# Altium footprint library WCAP-ATLL.PcbLib: 21 footprints (part 1 of 2)
Each footprint in its own frame and in the unit in brackets; x right, y up, seen from the top. Pads: shape width x height; smd on the part's side, far side on the other; paste and mask are expansions set on the pad; w line width, h text height; cw(c..) or ccw(c..) is an arc to the next point about the centre after c.
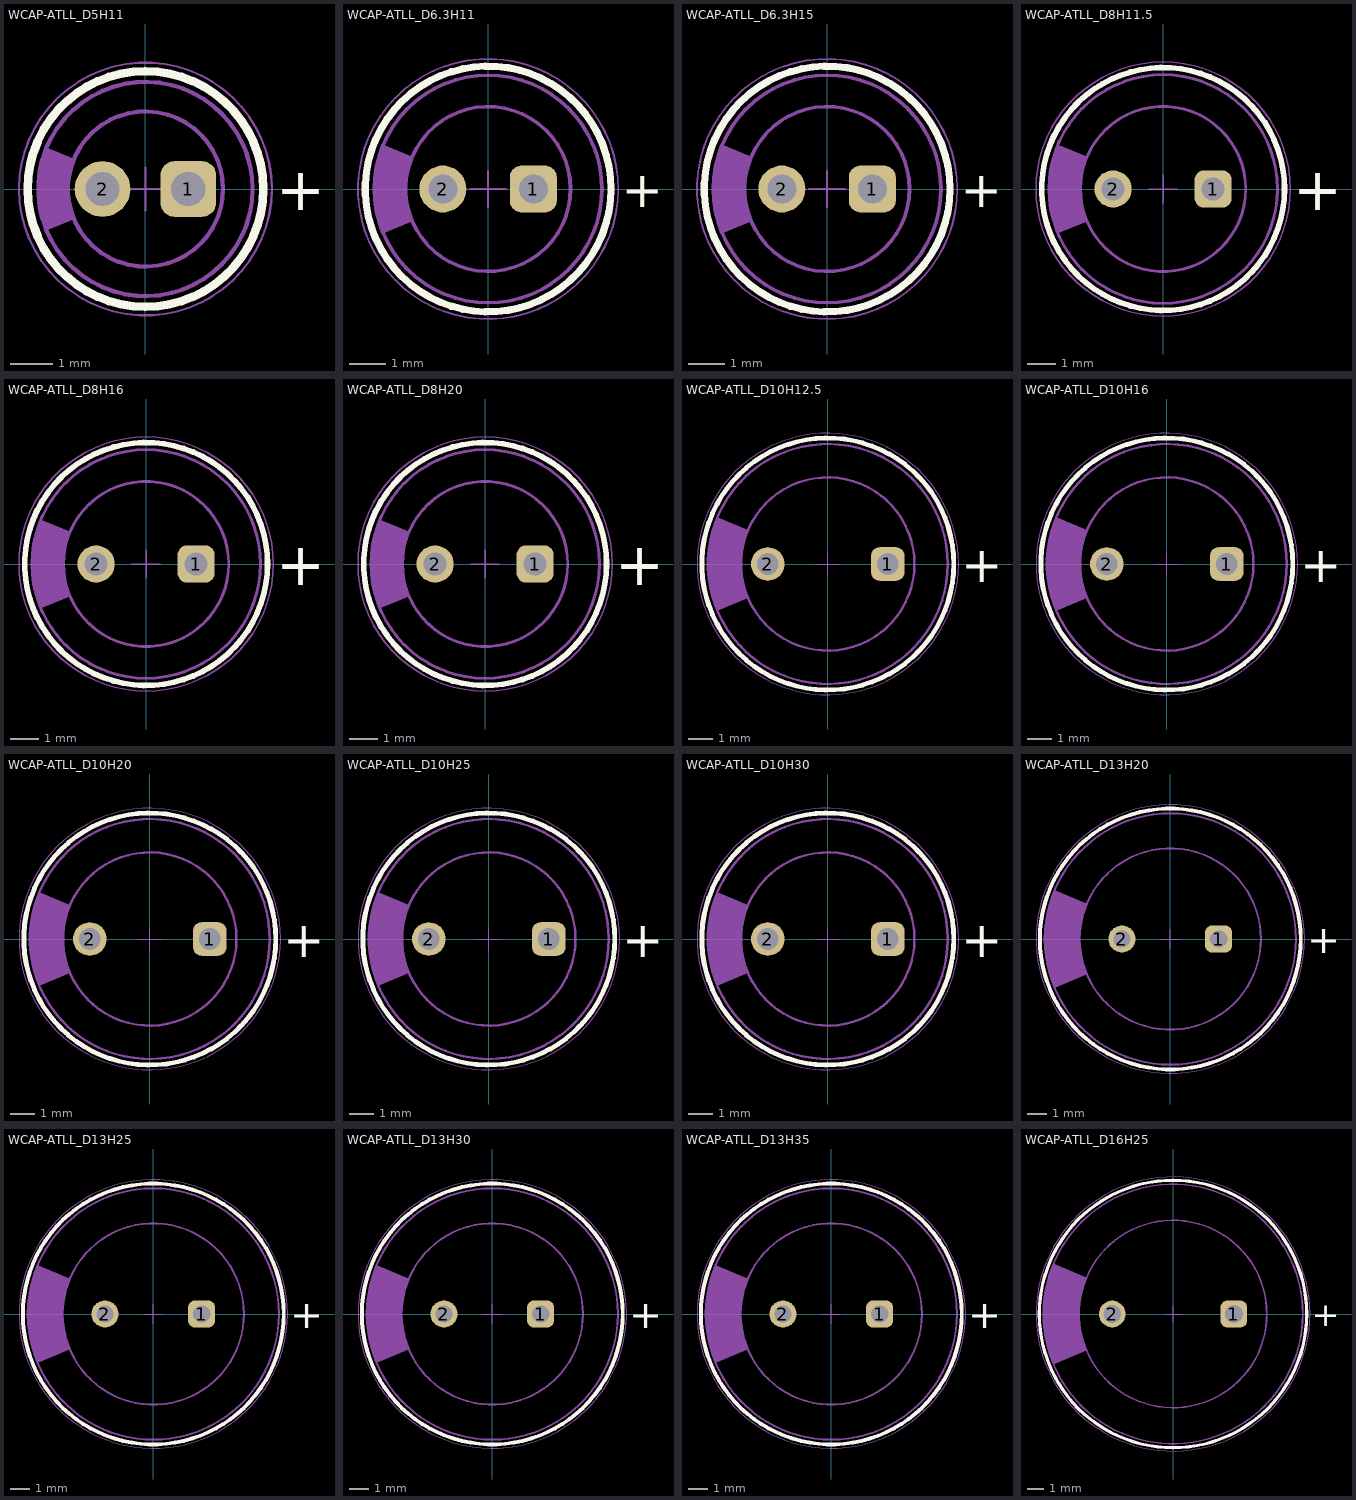
[diagram p0: the footprints below, top view; thin cyan lines are the x and y axes]

## WCAP-ATLL_D5H11 [mm] "Aluminum Electrolytic Capacitors, 5x11mm"
height 11
pads (2):
  rrect50% 1.3x1.3 hole 0.8: 1(1,0)
  round 1.3 hole 0.8: 2(-1,0)
Top Overlay:
  circle w0.2: c0,0 r2.75
  text "+" at 3.05,-0.5 h1
Top Designator:
  text ".Designator" at -4.998,-0.333 h1
Top Component Outline:
  circle w0.1: c0,0 r2.5
  circle w0.1: c0,0 r1.81
  region: -2.305,-0.968 -1.668,-0.702 -1.669,-0.701 -1.73,-0.532 -1.801,-0.18 -1.801,0.18 -1.73,0.532 -1.669,0.701 -1.668,0.702 -2.305,0.968 -2.402,0.738 -2.5,0.249 -2.5,-0.249 -2.402,-0.738
Top 3D Body:
  circle w0.1: c0,0 r2.5
  circle w0.1: c0,0 r1.81
  region: -2.305,-0.968 -1.668,-0.702 -1.669,-0.701 -1.73,-0.532 -1.801,-0.18 -1.801,0.18 -1.73,0.532 -1.669,0.701 -1.668,0.702 -2.305,0.968 -2.402,0.738 -2.5,0.249 -2.5,-0.249 -2.402,-0.738
Top Courtyard:
  circle w0.05: c0,0 r2.95
  lines w0.05: -0.5,0 0.5,0 ; 0,-0.5 0,0.5
3D body "5x11x2x0.5.stp": height 11.31, standoff -19.91, extent -2.49,-2.5 2.5,2.5

## WCAP-ATLL_D6.3H11 [mm] "Aluminum Electrolytic Capacitors, 6.3x11mm"
height 11
pads (2):
  rrect50% 1.3x1.3 hole 0.8: 1(1.25,0)
  round 1.3 hole 0.8: 2(-1.25,0)
Top Overlay:
  circle w0.2: c0,0 r3.4
  text "+" at 3.7,-0.5 h1
Top Designator:
  text ".Designator" at -5.998,-0.4 h1.2
Top Component Outline:
  circle w0.1: c0,0 r2.28
  circle w0.1: c0,0 r3.15
  region: -2.902,-1.225 -2.963,-1.08 -3.056,-0.779 -3.119,-0.471 -3.15,-0.157 -3.15,0.157 -3.119,0.471 -3.056,0.779 -2.963,1.08 -2.902,1.225 -2.1,0.887 -2.101,0.885 -2.179,0.671 -2.269,0.227 -2.269,-0.227 -2.179,-0.671 -2.101,-0.885 -2.1,-0.887
Top 3D Body:
  circle w0.1: c0,0 r2.28
  circle w0.1: c0,0 r3.15
  region: -2.902,-1.225 -2.963,-1.08 -3.056,-0.779 -3.119,-0.471 -3.15,-0.157 -3.15,0.157 -3.119,0.471 -3.056,0.779 -2.963,1.08 -2.902,1.225 -2.1,0.887 -2.101,0.885 -2.179,0.671 -2.269,0.227 -2.269,-0.227 -2.179,-0.671 -2.101,-0.885 -2.1,-0.887
Top Courtyard:
  circle w0.05: c0,0 r3.6
  lines w0.05: -0.5,0 0.5,0 ; 0,-0.5 0,0.5
3D body "6.3x11x2.5x0.5.stp": height 11.31, standoff -19.91, extent -3.14,-3.15 3.15,3.15

## WCAP-ATLL_D6.3H15 [mm] "Aluminum Electrolytic Capacitors, 6.3x15mm"
height 15
pads (2):
  rrect50% 1.3x1.3 hole 0.8: 1(1.25,0)
  round 1.3 hole 0.8: 2(-1.25,0)
Top Overlay:
  circle w0.2: c0,0 r3.4
  text "+" at 3.7,-0.5 h1
Top Designator:
  text ".Designator" at -5.998,-0.4 h1.2
Top Component Outline:
  circle w0.1: c0,0 r2.28
  circle w0.1: c0,0 r3.15
  region: -2.902,-1.225 -2.963,-1.08 -3.056,-0.779 -3.119,-0.471 -3.15,-0.157 -3.15,0.157 -3.119,0.471 -3.056,0.779 -2.963,1.08 -2.902,1.225 -2.1,0.887 -2.101,0.885 -2.179,0.671 -2.269,0.227 -2.269,-0.227 -2.179,-0.671 -2.101,-0.885 -2.1,-0.887
Top 3D Body:
  circle w0.1: c0,0 r2.28
  circle w0.1: c0,0 r3.15
  region: -2.902,-1.225 -2.963,-1.08 -3.056,-0.779 -3.119,-0.471 -3.15,-0.157 -3.15,0.157 -3.119,0.471 -3.056,0.779 -2.963,1.08 -2.902,1.225 -2.1,0.887 -2.101,0.885 -2.179,0.671 -2.269,0.227 -2.269,-0.227 -2.179,-0.671 -2.101,-0.885 -2.1,-0.887
Top Courtyard:
  circle w0.05: c0,0 r3.6
  lines w0.05: -0.5,0 0.5,0 ; 0,-0.5 0,0.5
3D body "6.3x15x2.5x0.5.stp": height 15.31, standoff -19.91, extent -3.14,-3.15 3.15,3.15

## WCAP-ATLL_D8H11.5 [mm] "Aluminum Electrolytic Capacitors, 8x11.5mm"
height 11.5
pads (2):
  rrect50% 1.3x1.3 hole 0.8: 1(1.75,0)
  round 1.3 hole 0.8: 2(-1.75,0)
Top Overlay:
  circle w0.2: c0,0 r4.25
  text "+" at 4.55,-0.75 h1.5
Top Designator:
  text ".Designator" at -7.498,-0.5 h1.5
Top Component Outline:
  circle w0.1: c0,0 r4
  circle w0.1: c0,0 r2.89
  region: -3.685,-1.557 -3.762,-1.372 -3.881,-0.99 -3.96,-0.598 -4,-0.2 -4,0.2 -3.96,0.598 -3.881,0.99 -3.762,1.372 -3.685,1.557 -2.662,1.125 -2.662,1.124 -2.715,0.99 -2.8,0.714 -2.858,0.431 -2.886,0.144 -2.886,-0.144 -2.858,-0.431 -2.8,-0.714 -2.715,-0.99 -2.662,-1.124 -2.662,-1.125
Top 3D Body:
  circle w0.1: c0,0 r4
  circle w0.1: c0,0 r2.89
  region: -3.685,-1.557 -3.762,-1.372 -3.881,-0.99 -3.96,-0.598 -4,-0.2 -4,0.2 -3.96,0.598 -3.881,0.99 -3.762,1.372 -3.685,1.557 -2.662,1.125 -2.662,1.124 -2.715,0.99 -2.8,0.714 -2.858,0.431 -2.886,0.144 -2.886,-0.144 -2.858,-0.431 -2.8,-0.714 -2.715,-0.99 -2.662,-1.124 -2.662,-1.125
Top Courtyard:
  circle w0.05: c0,0 r4.45
  lines w0.05: -0.5,0 0.5,0 ; 0,-0.5 0,0.5
3D body "8x11.5x3.5x0.5.stp": height 11.81, standoff -19.91, extent -3.99,-4 4,3.999

## WCAP-ATLL_D8H16 [mm] "Aluminum Electrolytic Capacitors, 8x16mm"
height 16
pads (2):
  rrect50% 1.3x1.3 hole 0.8: 1(1.75,0)
  round 1.3 hole 0.8: 2(-1.75,0)
Top Overlay:
  circle w0.2: c0,0 r4.25
  text "+" at 4.55,-0.75 h1.5
Top Designator:
  text ".Designator" at -7.498,-0.5 h1.5
Top Component Outline:
  circle w0.1: c0,0 r4
  circle w0.1: c0,0 r2.89
  region: -3.685,-1.557 -3.762,-1.372 -3.881,-0.99 -3.96,-0.598 -4,-0.2 -4,0.2 -3.96,0.598 -3.881,0.99 -3.762,1.372 -3.685,1.557 -2.662,1.125 -2.662,1.124 -2.715,0.99 -2.8,0.714 -2.858,0.431 -2.886,0.144 -2.886,-0.144 -2.858,-0.431 -2.8,-0.714 -2.715,-0.99 -2.662,-1.124 -2.662,-1.125
Top 3D Body:
  circle w0.1: c0,0 r4
  circle w0.1: c0,0 r2.89
  region: -3.685,-1.557 -3.762,-1.372 -3.881,-0.99 -3.96,-0.598 -4,-0.2 -4,0.2 -3.96,0.598 -3.881,0.99 -3.762,1.372 -3.685,1.557 -2.662,1.125 -2.662,1.124 -2.715,0.99 -2.8,0.714 -2.858,0.431 -2.886,0.144 -2.886,-0.144 -2.858,-0.431 -2.8,-0.714 -2.715,-0.99 -2.662,-1.124 -2.662,-1.125
Top Courtyard:
  circle w0.05: c0,0 r4.45
  lines w0.05: -0.5,0 0.5,0 ; 0,-0.5 0,0.5
3D body "8x16x3.5x0.5.stp": height 16.31, standoff -19.91, extent -3.99,-4 4,3.999

## WCAP-ATLL_D8H20 [mm] "Aluminum Electrolytic Capacitors, 8x20mm"
height 20
pads (2):
  rrect50% 1.3x1.3 hole 0.8: 1(1.75,0)
  round 1.3 hole 0.8: 2(-1.75,0)
Top Overlay:
  circle w0.2: c0,0 r4.25
  text "+" at 4.55,-0.75 h1.5
Top Designator:
  text ".Designator" at -7.498,-0.5 h1.5
Top Component Outline:
  circle w0.1: c0,0 r4
  circle w0.1: c0,0 r2.89
  region: -3.685,-1.557 -3.762,-1.372 -3.881,-0.99 -3.96,-0.598 -4,-0.2 -4,0.2 -3.96,0.598 -3.881,0.99 -3.762,1.372 -3.685,1.557 -2.662,1.125 -2.662,1.124 -2.715,0.99 -2.8,0.714 -2.858,0.431 -2.886,0.144 -2.886,-0.144 -2.858,-0.431 -2.8,-0.714 -2.715,-0.99 -2.662,-1.124 -2.662,-1.125
Top 3D Body:
  circle w0.1: c0,0 r4
  circle w0.1: c0,0 r2.89
  region: -3.685,-1.557 -3.762,-1.372 -3.881,-0.99 -3.96,-0.598 -4,-0.2 -4,0.2 -3.96,0.598 -3.881,0.99 -3.762,1.372 -3.685,1.557 -2.662,1.125 -2.662,1.124 -2.715,0.99 -2.8,0.714 -2.858,0.431 -2.886,0.144 -2.886,-0.144 -2.858,-0.431 -2.8,-0.714 -2.715,-0.99 -2.662,-1.124 -2.662,-1.125
Top Courtyard:
  circle w0.05: c0,0 r4.45
  lines w0.05: -0.5,0 0.5,0 ; 0,-0.5 0,0.5
3D body "8x20x3.5x0.6.stp": height 20.31, standoff -19.91, extent -3.99,-4 4,3.998

## WCAP-ATLL_D10H12.5 [mm] "Aluminum Electrolytic Capacitors, 10x12.5mm"
height 12.5
pads (2):
  rrect50% 1.4x1.4 hole 0.9: 1(2.5,0)
  round 1.4 hole 0.9: 2(-2.5,0)
Top Overlay:
  circle w0.2: c0,0 r5.25
  text "+" at 5.55,-0.75 h1.5
Top Designator:
  text ".Designator" at -7.498,-0.5 h1.5
Top Component Outline:
  circle w0.1: c0,0 r5
  circle w0.1: c0,0 r3.61
  region: -4.607,-1.944 -3.323,-1.41 -3.324,-1.409 -3.39,-1.24 -3.497,-0.895 -3.569,-0.541 -3.605,-0.181 -3.605,0.181 -3.569,0.541 -3.497,0.895 -3.39,1.24 -3.324,1.409 -3.323,1.41 -4.607,1.944 -4.704,1.714 -4.851,1.237 -4.95,0.747 -5,0.25 -5,-0.25 -4.95,-0.747 -4.851,-1.237 -4.704,-1.714
Top 3D Body:
  circle w0.1: c0,0 r5
  circle w0.1: c0,0 r3.61
  region: -4.607,-1.944 -3.323,-1.41 -3.324,-1.409 -3.39,-1.24 -3.497,-0.895 -3.569,-0.541 -3.605,-0.181 -3.605,0.181 -3.569,0.541 -3.497,0.895 -3.39,1.24 -3.324,1.409 -3.323,1.41 -4.607,1.944 -4.704,1.714 -4.851,1.237 -4.95,0.747 -5,0.25 -5,-0.25 -4.95,-0.747 -4.851,-1.237 -4.704,-1.714
Top Courtyard:
  circle w0.05: c0,0 r5.45
  lines w0.05: -0.5,0 0.5,0 ; 0,-0.5 0,0.5
3D body "10x12.5x5x0.6.stp": height 12.81, standoff -19.91, extent -4.99,-5 5,5

## WCAP-ATLL_D10H16 [mm] "Aluminum Electrolytic Capacitors, 10x16mm"
height 16
pads (2):
  rrect50% 1.4x1.4 hole 0.9: 1(2.5,0)
  round 1.4 hole 0.9: 2(-2.5,0)
Top Overlay:
  circle w0.2: c0,0 r5.25
  text "+" at 5.55,-0.75 h1.5
Top Designator:
  text ".Designator" at -7.498,-0.5 h1.5
Top Component Outline:
  circle w0.1: c0,0 r3.61
  circle w0.1: c0,0 r5
  region: -4.607,-1.944 -3.323,-1.41 -3.324,-1.409 -3.39,-1.24 -3.497,-0.895 -3.569,-0.541 -3.605,-0.181 -3.605,0.181 -3.569,0.541 -3.497,0.895 -3.39,1.24 -3.324,1.409 -3.323,1.41 -4.607,1.944 -4.704,1.714 -4.851,1.237 -4.95,0.747 -5,0.25 -5,-0.25 -4.95,-0.747 -4.851,-1.237 -4.704,-1.714
Top 3D Body:
  circle w0.1: c0,0 r3.61
  circle w0.1: c0,0 r5
  region: -4.607,-1.944 -3.323,-1.41 -3.324,-1.409 -3.39,-1.24 -3.497,-0.895 -3.569,-0.541 -3.605,-0.181 -3.605,0.181 -3.569,0.541 -3.497,0.895 -3.39,1.24 -3.324,1.409 -3.323,1.41 -4.607,1.944 -4.704,1.714 -4.851,1.237 -4.95,0.747 -5,0.25 -5,-0.25 -4.95,-0.747 -4.851,-1.237 -4.704,-1.714
Top Courtyard:
  circle w0.05: c0,0 r5.45
  lines w0.05: -0.5,0 0.5,0 ; 0,-0.5 0,0.5
3D body "10x16x5x0.6.stp": height 16.31, standoff -19.91, extent -4.99,-5 5,4.999

## WCAP-ATLL_D10H20 [mm] "Aluminum Electrolytic Capacitors, 10x20mm"
height 20
pads (2):
  rrect50% 1.4x1.4 hole 0.9: 1(2.5,0)
  round 1.4 hole 0.9: 2(-2.5,0)
Top Overlay:
  circle w0.2: c0,0 r5.25
  text "+" at 5.55,-0.75 h1.5
Top Designator:
  text ".Designator" at -7.498,-0.5 h1.5
Top Component Outline:
  circle w0.1: c0,0 r5
  circle w0.1: c0,0 r3.61
  region: -4.607,-1.944 -3.323,-1.41 -3.324,-1.409 -3.39,-1.24 -3.497,-0.895 -3.569,-0.541 -3.605,-0.181 -3.605,0.181 -3.569,0.541 -3.497,0.895 -3.39,1.24 -3.324,1.409 -3.323,1.41 -4.607,1.944 -4.704,1.714 -4.851,1.237 -4.95,0.747 -5,0.25 -5,-0.25 -4.95,-0.747 -4.851,-1.237 -4.704,-1.714
Top 3D Body:
  circle w0.1: c0,0 r5
  circle w0.1: c0,0 r3.61
  region: -4.607,-1.944 -3.323,-1.41 -3.324,-1.409 -3.39,-1.24 -3.497,-0.895 -3.569,-0.541 -3.605,-0.181 -3.605,0.181 -3.569,0.541 -3.497,0.895 -3.39,1.24 -3.324,1.409 -3.323,1.41 -4.607,1.944 -4.704,1.714 -4.851,1.237 -4.95,0.747 -5,0.25 -5,-0.25 -4.95,-0.747 -4.851,-1.237 -4.704,-1.714
Top Courtyard:
  circle w0.05: c0,0 r5.45
  lines w0.05: -0.5,0 0.5,0 ; 0,-0.5 0,0.5
3D body "10x20x5x0.6.stp": height 20.31, standoff -19.91, extent -4.99,-5 5,4.999

## WCAP-ATLL_D10H25 [mm] "Aluminum Electrolytic Capacitors, 10x25mm"
height 25
pads (2):
  rrect50% 1.4x1.4 hole 0.9: 1(2.5,0)
  round 1.4 hole 0.9: 2(-2.5,0)
Top Overlay:
  circle w0.2: c0,0 r5.25
  text "+" at 5.55,-0.75 h1.5
Top Designator:
  text ".Designator" at -7.498,-0.5 h1.5
Top Component Outline:
  circle w0.1: c0,0 r5
  circle w0.1: c0,0 r3.61
  region: -4.607,-1.944 -3.323,-1.41 -3.324,-1.409 -3.39,-1.24 -3.497,-0.895 -3.569,-0.541 -3.605,-0.181 -3.605,0.181 -3.569,0.541 -3.497,0.895 -3.39,1.24 -3.324,1.409 -3.323,1.41 -4.607,1.944 -4.704,1.714 -4.851,1.237 -4.95,0.747 -5,0.25 -5,-0.25 -4.95,-0.747 -4.851,-1.237 -4.704,-1.714
Top 3D Body:
  circle w0.1: c0,0 r5
  circle w0.1: c0,0 r3.61
  region: -4.607,-1.944 -3.323,-1.41 -3.324,-1.409 -3.39,-1.24 -3.497,-0.895 -3.569,-0.541 -3.605,-0.181 -3.605,0.181 -3.569,0.541 -3.497,0.895 -3.39,1.24 -3.324,1.409 -3.323,1.41 -4.607,1.944 -4.704,1.714 -4.851,1.237 -4.95,0.747 -5,0.25 -5,-0.25 -4.95,-0.747 -4.851,-1.237 -4.704,-1.714
Top Courtyard:
  circle w0.05: c0,0 r5.45
  lines w0.05: -0.5,0 0.5,0 ; 0,-0.5 0,0.5
3D body "10x25x5x0.6.stp": height 25.31, standoff -19.91, extent -4.99,-5 5,4.997

## WCAP-ATLL_D10H30 [mm] "Aluminum Electrolytic Capacitors, 10x30mm"
height 30
pads (2):
  rrect50% 1.4x1.4 hole 0.9: 1(2.5,0)
  round 1.4 hole 0.9: 2(-2.5,0)
Top Overlay:
  circle w0.2: c0,0 r5.25
  text "+" at 5.55,-0.75 h1.5
Top Designator:
  text ".Designator" at -7.498,-0.5 h1.5
Top Component Outline:
  circle w0.1: c0,0 r3.61
  circle w0.1: c0,0 r5
  region: -4.607,-1.944 -3.323,-1.41 -3.324,-1.409 -3.39,-1.24 -3.497,-0.895 -3.569,-0.541 -3.605,-0.181 -3.605,0.181 -3.569,0.541 -3.497,0.895 -3.39,1.24 -3.324,1.409 -3.323,1.41 -4.607,1.944 -4.704,1.714 -4.851,1.237 -4.95,0.747 -5,0.25 -5,-0.25 -4.95,-0.747 -4.851,-1.237 -4.704,-1.714
Top 3D Body:
  circle w0.1: c0,0 r3.61
  circle w0.1: c0,0 r5
  region: -4.607,-1.944 -3.323,-1.41 -3.324,-1.409 -3.39,-1.24 -3.497,-0.895 -3.569,-0.541 -3.605,-0.181 -3.605,0.181 -3.569,0.541 -3.497,0.895 -3.39,1.24 -3.324,1.409 -3.323,1.41 -4.607,1.944 -4.704,1.714 -4.851,1.237 -4.95,0.747 -5,0.25 -5,-0.25 -4.95,-0.747 -4.851,-1.237 -4.704,-1.714
Top Courtyard:
  circle w0.05: c0,0 r5.45
  lines w0.05: -0.5,0 0.5,0 ; 0,-0.5 0,0.5
3D body "10x30x5x0.6.stp": height 30.31, standoff -19.91, extent -4.99,-5 5,5

## WCAP-ATLL_D13H20 [mm] "Aluminum Electrolytic Capacitors, 13x20mm"
height 20
pads (2):
  rrect50% 1.4x1.4 hole 0.9: 1(2.5,0)
  round 1.4 hole 0.9: 2(-2.5,0)
Top Overlay:
  circle w0.2: c0,0 r6.75
  text "+" at 7.075,-0.737 h1.5
Top Designator:
  text ".Designator" at -7.498,-0.5 h1.5
Top Component Outline:
  circle w0.1: c0,0 r6.5
  circle w0.1: c0,0 r4.69
  region: -5.99,-2.525 -6.116,-2.226 -6.307,-1.606 -6.435,-0.97 -6.5,-0.324 -6.5,0.324 -6.435,0.97 -6.307,1.606 -6.116,2.226 -5.99,2.525 -4.32,1.826 -4.321,1.824 -4.406,1.606 -4.545,1.159 -4.637,0.7 -4.684,0.234 -4.684,-0.234 -4.637,-0.7 -4.545,-1.159 -4.406,-1.606 -4.321,-1.824 -4.32,-1.826
Top 3D Body:
  circle w0.1: c0,0 r6.5
  circle w0.1: c0,0 r4.69
  region: -5.99,-2.525 -6.116,-2.226 -6.307,-1.606 -6.435,-0.97 -6.5,-0.324 -6.5,0.324 -6.435,0.97 -6.307,1.606 -6.116,2.226 -5.99,2.525 -4.32,1.826 -4.321,1.824 -4.406,1.606 -4.545,1.159 -4.637,0.7 -4.684,0.234 -4.684,-0.234 -4.637,-0.7 -4.545,-1.159 -4.406,-1.606 -4.321,-1.824 -4.32,-1.826
Top Courtyard:
  circle w0.05: c0,0 r6.95
  lines w0.05: -0.5,0 0.5,0 ; 0,-0.5 0,0.5
3D body "13x20x5x0.6.stp": height 20.31, standoff -19.91, extent -6.49,-6.5 6.5,6.5

## WCAP-ATLL_D13H25 [mm] "Aluminum Electrolytic Capacitors, 13x25mm"
height 25
pads (2):
  rrect50% 1.4x1.4 hole 0.9: 1(2.5,0)
  round 1.4 hole 0.9: 2(-2.5,0)
Top Overlay:
  circle w0.2: c0,0 r6.75
  text "+" at 7.075,-0.737 h1.5
Top Designator:
  text ".Designator" at -7.498,-0.5 h1.5
Top Component Outline:
  circle w0.1: c0,0 r4.69
  circle w0.1: c0,0 r6.5
  region: -5.99,-2.525 -6.116,-2.226 -6.307,-1.606 -6.435,-0.97 -6.5,-0.324 -6.5,0.324 -6.435,0.97 -6.307,1.606 -6.116,2.226 -5.99,2.525 -4.32,1.826 -4.321,1.824 -4.406,1.606 -4.545,1.159 -4.637,0.7 -4.684,0.234 -4.684,-0.234 -4.637,-0.7 -4.545,-1.159 -4.406,-1.606 -4.321,-1.824 -4.32,-1.826
Top 3D Body:
  circle w0.1: c0,0 r4.69
  circle w0.1: c0,0 r6.5
  region: -5.99,-2.525 -6.116,-2.226 -6.307,-1.606 -6.435,-0.97 -6.5,-0.324 -6.5,0.324 -6.435,0.97 -6.307,1.606 -6.116,2.226 -5.99,2.525 -4.32,1.826 -4.321,1.824 -4.406,1.606 -4.545,1.159 -4.637,0.7 -4.684,0.234 -4.684,-0.234 -4.637,-0.7 -4.545,-1.159 -4.406,-1.606 -4.321,-1.824 -4.32,-1.826
Top Courtyard:
  circle w0.05: c0,0 r6.95
  lines w0.05: -0.5,0 0.5,0 ; 0,-0.5 0,0.5
3D body "13x25x5x0.6.stp": height 25.31, standoff -19.91, extent -6.49,-6.5 6.5,6.5

## WCAP-ATLL_D13H30 [mm] "Aluminum Electrolytic Capacitors, 13x30mm"
height 30
pads (2):
  rrect50% 1.4x1.4 hole 0.9: 1(2.5,0)
  round 1.4 hole 0.9: 2(-2.5,0)
Top Overlay:
  circle w0.2: c0,0 r6.75
  text "+" at 7.075,-0.737 h1.5
Top Designator:
  text ".Designator" at -7.498,-0.5 h1.5
Top Component Outline:
  circle w0.1: c0,0 r6.5
  circle w0.1: c0,0 r4.69
  region: -5.99,-2.525 -6.116,-2.226 -6.307,-1.606 -6.435,-0.97 -6.5,-0.324 -6.5,0.324 -6.435,0.97 -6.307,1.606 -6.116,2.226 -5.99,2.525 -4.32,1.826 -4.321,1.824 -4.406,1.606 -4.545,1.159 -4.637,0.7 -4.684,0.234 -4.684,-0.234 -4.637,-0.7 -4.545,-1.159 -4.406,-1.606 -4.321,-1.824 -4.32,-1.826
Top 3D Body:
  circle w0.1: c0,0 r6.5
  circle w0.1: c0,0 r4.69
  region: -5.99,-2.525 -6.116,-2.226 -6.307,-1.606 -6.435,-0.97 -6.5,-0.324 -6.5,0.324 -6.435,0.97 -6.307,1.606 -6.116,2.226 -5.99,2.525 -4.32,1.826 -4.321,1.824 -4.406,1.606 -4.545,1.159 -4.637,0.7 -4.684,0.234 -4.684,-0.234 -4.637,-0.7 -4.545,-1.159 -4.406,-1.606 -4.321,-1.824 -4.32,-1.826
Top Courtyard:
  circle w0.05: c0,0 r6.95
  lines w0.05: -0.5,0 0.5,0 ; 0,-0.5 0,0.5
3D body "13x30x5x0.6.stp": height 30.31, standoff -19.91, extent -6.49,-6.5 6.5,6.498

## WCAP-ATLL_D13H35 [mm] "Aluminum Electrolytic Capacitors, 13x35mm"
height 35
pads (2):
  rrect50% 1.4x1.4 hole 0.9: 1(2.5,0)
  round 1.4 hole 0.9: 2(-2.5,0)
Top Overlay:
  circle w0.2: c0,0 r6.75
  text "+" at 7.075,-0.737 h1.5
Top Designator:
  text ".Designator" at -7.498,-0.5 h1.5
Top Component Outline:
  circle w0.1: c0,0 r4.69
  circle w0.1: c0,0 r6.5
  region: -5.99,-2.525 -6.116,-2.226 -6.307,-1.606 -6.435,-0.97 -6.5,-0.324 -6.5,0.324 -6.435,0.97 -6.307,1.606 -6.116,2.226 -5.99,2.525 -4.32,1.826 -4.321,1.824 -4.406,1.606 -4.545,1.159 -4.637,0.7 -4.684,0.234 -4.684,-0.234 -4.637,-0.7 -4.545,-1.159 -4.406,-1.606 -4.321,-1.824 -4.32,-1.826
Top 3D Body:
  circle w0.1: c0,0 r4.69
  circle w0.1: c0,0 r6.5
  region: -5.99,-2.525 -6.116,-2.226 -6.307,-1.606 -6.435,-0.97 -6.5,-0.324 -6.5,0.324 -6.435,0.97 -6.307,1.606 -6.116,2.226 -5.99,2.525 -4.32,1.826 -4.321,1.824 -4.406,1.606 -4.545,1.159 -4.637,0.7 -4.684,0.234 -4.684,-0.234 -4.637,-0.7 -4.545,-1.159 -4.406,-1.606 -4.321,-1.824 -4.32,-1.826
Top Courtyard:
  circle w0.05: c0,0 r6.95
  lines w0.05: -0.5,0 0.5,0 ; 0,-0.5 0,0.5
3D body "13x35x5x0.6.stp": height 35.31, standoff -19.91, extent -6.49,-6.5 6.5,6.5

## WCAP-ATLL_D16H25 [mm] "Aluminum Electrolytic Capacitors, 16x25mm"
height 25
pads (2):
  rrect50% 1.65x1.65 hole 1.1: 1(3.75,0)
  round 1.65 hole 1.1: 2(-3.75,0)
Top Overlay:
  circle w0.2: c0,0 r8.25
  text "+" at 8.55,-0.75 h1.5
Top Designator:
  text ".Designator" at -7.498,-0.5 h1.5
Top Component Outline:
  circle w0.1: c0,0 r8
  circle w0.1: c0,0 r5.78
  region: -7.369,-3.114 -5.324,-2.25 -5.325,-2.248 -5.431,-1.979 -5.601,-1.428 -5.715,-0.863 -5.773,-0.288 -5.773,0.288 -5.715,0.863 -5.601,1.428 -5.431,1.979 -5.325,2.248 -5.324,2.25 -7.369,3.114 -7.525,2.745 -7.761,1.98 -7.92,1.196 -8,0.4 -8,-0.4 -7.92,-1.196 -7.761,-1.98 -7.525,-2.745
Top 3D Body:
  circle w0.1: c0,0 r8
  circle w0.1: c0,0 r5.78
  region: -7.369,-3.114 -5.324,-2.25 -5.325,-2.248 -5.431,-1.979 -5.601,-1.428 -5.715,-0.863 -5.773,-0.288 -5.773,0.288 -5.715,0.863 -5.601,1.428 -5.431,1.979 -5.325,2.248 -5.324,2.25 -7.369,3.114 -7.525,2.745 -7.761,1.98 -7.92,1.196 -8,0.4 -8,-0.4 -7.92,-1.196 -7.761,-1.98 -7.525,-2.745
Top Courtyard:
  circle w0.05: c0,0 r8.45
  lines w0.05: -0.5,0 0.5,0 ; 0,-0.5 0,0.5
3D body "16x25x7.5x0.8.stp": height 25.31, standoff -19.91, extent -7.99,-8 8,7.999